# Altium schematic symbol library FPGAs.SchLib: 2 symbols
Pins are listed as number, name and electrical type; pins without a type are passive.

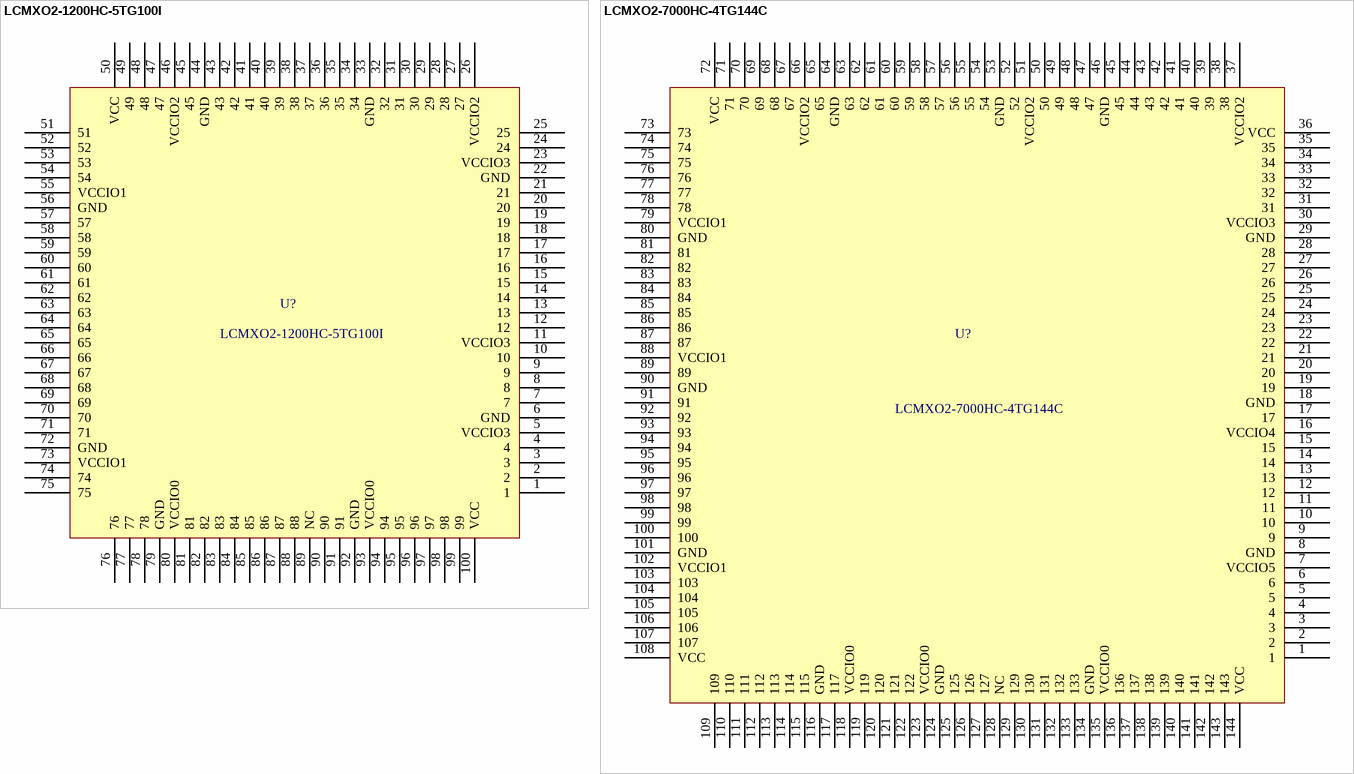
[diagram p0: symbols LCMXO2-1200HC-5TG100I to LCMXO2-7000HC-4TG144C]

## LCMXO2-1200HC-5TG100I
designator U?
IC PLD 1280LUTS 80I/O 100TQFP; Manufacturer: Lattice Semiconductor Corporation; Programmable Type: In System Programmable; Delay Time tpd(1) Max: 6.96ns; Voltage Supply - Internal: 2.375 V ~ 3.465 V; Number of Logic Elements/Blocks: 160; Number of Macrocells: 640; Number of I /O: 80; Supplier 1: Digi-Key; RoHS: RoHS Compliant; Category: Integrated Circuits (ICs); Stock 1: 582; Pricing 1: 1=8.85, 25=7.7, 100=7.1836 (USD); Packaging: Tray; Number of Gates: -; Operating Temperature: -40°C ~ 100°C; Mounting Type: Surface Mount; Package / Case: 100-LQFP; Supplier Device Package: 100-TQFP (14x14); ComponentLink1URL: http://www.latticesemi.com/~/media/Documents/DataSheets/MachXO2FamilyDataSheet.pdf; ComponentLink1Description: http://www.latticesemi.com/~/media/Documents/DataSheets/MachXO2FamilyDataSheet.pdf; Supplier Part Number 1: 220-1273-ND; Manufacturer Part Number: LCMXO2-1200HC-5TG100I
footprint TQFP100_M (100-Pin Thin Quad Flat Pack (TQFP100), IPC Low Density)
pins: 1, 2, 3, 4, 5 VCCIO3, 6 GND, 7, 8, 9, 10, 11 VCCIO3, 12, 13, 14, 15, 16, 17, 18, 19, 20, 21, 22 GND, 23 VCCIO3, 24, 25, 26 VCCIO2, 27, 28, 29, 30, 31, 32, 33 GND, 34, 35, 36, 37, 38, 39, 40, 41, 42, 43, 44 GND, 45, 46 VCCIO2, 47, 48, 49, 50 VCC, 51, 52, 53, 54, 55 VCCIO1, 56 GND, 57, 58, 59, 60, 61, 62, 63, 64, 65, 66, 67, 68, 69, 70, 71, 72 GND, 73 VCCIO1, 74, 75, 76, 77, 78, 79 GND, 80 VCCIO0, 81, 82, 83, 84, 85, 86, 87, 88, 89 NC, 90, 91, 92 GND, 93 VCCIO0, 94, 95, 96, 97, 98, 99, 100 VCC

## LCMXO2-7000HC-4TG144C
designator U?
IC CPLD 3432MC 7.24NS 144TQFP; Manufacturer: Lattice Semiconductor Corporation; Programmable Type: In System Programmable; Voltage Supply - Internal: 2.375 V ~ 3.465 V; Number of Logic Elements/Blocks: 858; Number of Macrocells: 3432; Number of I /O: 115; Supplier 1: Digi-Key; RoHS: RoHS Compliant; Category: Integrated Circuits (ICs); Stock 1: 7; Pricing 1: 1=14.45, 25=12.55, 100=11.6655 (USD); Packaging: Tray; Delay Time tpd(1) Max: 7.24ns; Number of Gates: -; Operating Temperature: 0°C ~ 85°C; Mounting Type: Surface Mount; Package / Case: 144-LQFP; Supplier Device Package: 144-TQFP (20x20); ComponentLink1URL: http://www.latticesemi.com/~/media/Documents/DataSheets/MachXO2FamilyDataSheet.pdf; ComponentLink1Description: http://www.latticesemi.com/~/media/Documents/DataSheets/MachXO2FamilyDataSheet.pdf; Supplier Part Number 1: 220-1508-ND; Manufacturer Part Number: LCMXO2-7000HC-4TG144C
footprint TQFP144_M (144-Pin Thin Quad Flat Pack (TQFP144), IPC Low Density)
pins: 1, 2, 3, 4, 5, 6, 7 VCCIO5, 8 GND, 9, 10, 11, 12, 13, 14, 15, 16 VCCIO4, 17, 18 GND, 19, 20, 21, 22, 23, 24, 25, 26, 27, 28, 29 GND, 30 VCCIO3, 31, 32, 33, 34, 35, 36 VCC, 37 VCCIO2, 38, 39, 40, 41, 42, 43, 44, 45, 46 GND, 47, 48, 49, 50, 51 VCCIO2, 52, 53 GND, 54, 55, 56, 57, 58, 59, 60, 61, 62, 63, 64 GND, 65, 66 VCCIO2, 67, 68, 69, 70, 71, 72 VCC, 73, 74, 75, 76, 77, 78, 79 VCCIO1, 80 GND, 81, 82, 83, 84, 85, 86, 87, 88 VCCIO1, 89, 90 GND, 91, 92, 93, 94, 95, 96, 97, 98, 99, 100, 101 GND, 102 VCCIO1, 103, 104, 105, 106, 107, 108 VCC, 109, 110, 111, 112, 113, 114, 115, 116 GND, 117, 118 VCCIO0, 119, 120, 121, 122, 123 VCCIO0, 124 GND, 125, 126, 127, 128 NC, 129, 130, 131, 132, 133, 134 GND, 135 VCCIO0, 136, 137, 138, 139, 140, 141, 142, 143, 144 VCC